# Altium footprint library Crystals.PcbLib: 2 footprints
Each footprint in its own frame and in the unit in brackets; x right, y up, seen from the top. Pads: shape width x height; smd on the part's side, far side on the other; paste and mask are expansions set on the pad; w line width, h text height; cw(c..) or ccw(c..) is an arc to the next point about the centre after c.
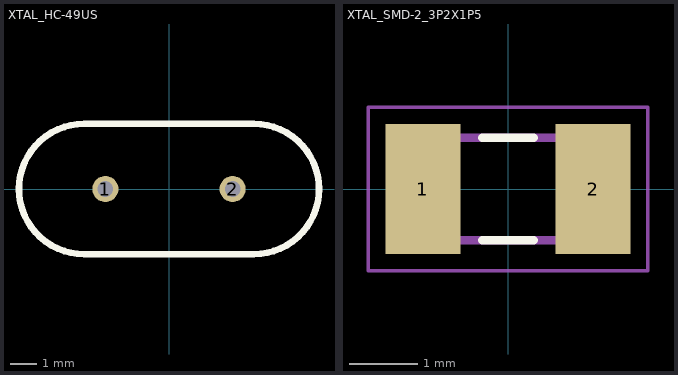
[diagram p0: the footprints below, top view; thin cyan lines are the x and y axes]

## XTAL_HC-49US [mm]
pads (2):
  round 1 hole 0.6: 1(-2.44,0) 2(2.44,0)
Top Overlay:
  lines w0.254: -5.75,0 cw(c-3.25,0) -3.25,2.5 3.25,2.5 cw(c3.25,0) 5.75,0 cw(c3.25,0) 3.25,-2.5 -3.25,-2.5 cw(c-3.25,0) -5.75,0
3D body "KX-3H-PRATA.STEP": height 3.6, standoff -4.7, extent -5.675,-2.325 5.675,2.325

## XTAL_SMD-2_3P2X1P5 [mm]
height 0.9
pads (2):
  rect 1.1x1.9 smd: 1(-1.25,0) 2(1.25,0)
Top Overlay:
  lines w0.127: -0.38,-0.75 0.38,-0.75 ; -0.38,0.75 0.38,0.75
Mechanical 13:
  lines w0.127: -1.6,-0.75 -1.6,0.75 1.6,0.75 1.6,-0.75 -1.6,-0.75
Mechanical 15:
  lines w0.05: -2.05,-1.2 -2.05,1.2 2.05,1.2 2.05,-1.2 -2.05,-1.2
3D body "User Library-FX135A-327.step": height 0.9, standoff -0.01, extent -1.6,-0.75 1.6,0.75